# Altium integrated library ATMEGA16-16AUR.IntLib: 1 symbol
Pins are listed as number, name and electrical type; pins without a type are passive.

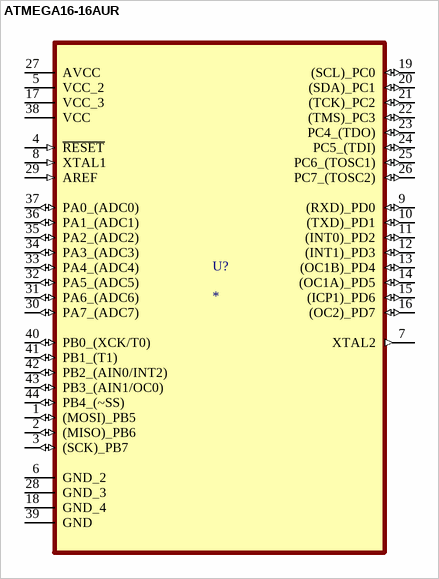
[diagram p0: symbol ATMEGA16-16AUR]

## ATMEGA16-16AUR
designator U?
8-bit Microcontroller; MP: ATMEGA16-16AUR; Package: None; Price: None; Value: *; Availability: Unavailable
footprint QFP80P1200X1200X120-44N
pins: 1 (MOSI)_PB5 (io), 2 (MISO)_PB6 (io), 3 (SCK)_PB7 (io), 4 ~{RESET} (in), 5 VCC_2 (power), 6 GND_2, 7 XTAL2 (out), 8 XTAL1 (in), 9 (RXD)_PD0 (io), 10 (TXD)_PD1 (io), 11 (INT0)_PD2 (io), 12 (INT1)_PD3 (io), 13 (OC1B)_PD4 (io), 14 (OC1A)_PD5 (io), 15 (ICP1)_PD6 (io), 16 (OC2)_PD7 (io), 17 VCC_3 (power), 18 GND_4, 19 (SCL)_PC0 (io), 20 (SDA)_PC1 (io), 21 (TCK)_PC2 (io), 22 (TMS)_PC3 (io), 23 PC4_(TDO) (io), 24 PC5_(TDI) (io), 25 PC6_(TOSC1) (io), 26 PC7_(TOSC2) (io), 27 AVCC (power), 28 GND_3, 29 AREF (in), 30 PA7_(ADC7) (io), 31 PA6_(ADC6) (io), 32 PA5_(ADC5) (io), 33 PA4_(ADC4) (io), 34 PA3_(ADC3) (io), 35 PA2_(ADC2) (io), 36 PA1_(ADC1) (io), 37 PA0_(ADC0) (io), 38 VCC (power), 39 GND, 40 PB0_(XCK/T0) (io), 41 PB1_(T1) (io), 42 PB2_(AIN0/INT2) (io), 43 PB3_(AIN1/OC0) (io), 44 PB4_(~SS) (io)